# EAGLE library part BQ51050BRHLR (library (custom)-new-components)
Qi (WPC) Compliant Highly Integrated Secondary-Side Direct Lithium Ion Charger. 20-VQFN
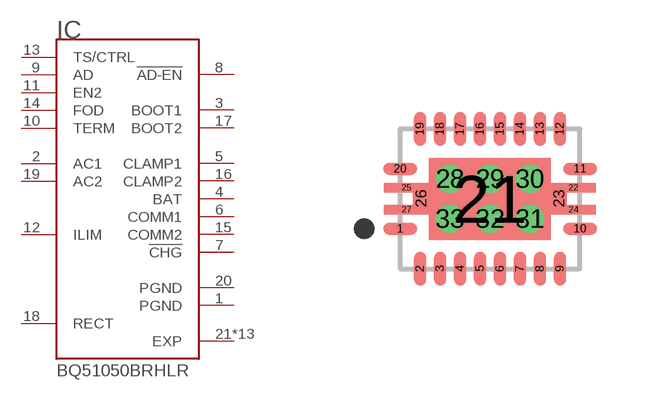
[diagram p11: symbol with the pads of QFN50P450X350X100-21N; footprint QFN50P450X350X100-21N]

Designator prefix IC

## BQ51050BRHLR (AVAILABILITY: Good; DESCRIPTION: IC WIRELESS PWR RCVR 20QFN; MF: Texas Instruments; MP: BQ51050BRHLR; PACKAGE: VQFN-20 Texas Instruments; PRICE: 2.63 USD)  [QFN50P450X350X100-21N]
1  PGND  pwr
2  AC1  in
3  BOOT1  out
4  BAT  out
5  CLAMP1  out
6  COMM1  out
7  !CHG  out
8  !AD-EN  out
9  AD  in
10  TERM  in
11  EN2  in
12  ILIM
13  TS/CTRL  in
14  FOD  in
15  COMM2  out
16  CLAMP2  out
17  BOOT2  out
18  RECT  pas
19  AC2  in
20  PGND  pwr
21  EXP  pwr
22  EXP  pwr
23  EXP  pwr
24  EXP  pwr
25  EXP  pwr
26  EXP  pwr
27  EXP  pwr
28  EXP  pwr
29  EXP  pwr
30  EXP  pwr
31  EXP  pwr
32  EXP  pwr
33  EXP  pwr

## Footprint QFN50P450X350X100-21N (pad centres in mm)
smd 0.85 x 0.3: 1 -2.25,-0.75; 10 2.25,-0.75; 11 2.25,0.75; 20 -2.25,0.75
smd 0.3 x 0.85: 2 -1.75,-1.75; 3 -1.25,-1.75; 4 -0.75,-1.75; 5 -0.25,-1.75; 6 0.25,-1.75; 7 0.75,-1.75; 8 1.25,-1.75; 9 1.75,-1.75; 12 1.75,1.75; 13 1.25,1.75; 14 0.75,1.75; 15 0.25,1.75; 16 -0.25,1.75; 17 -0.75,1.75; 18 -1.25,1.75; 19 -1.75,1.75
smd 3.05 x 2.05: 21 0,0
smd 1.125 x 0.23: 22 2.087,0.275; 24 2.087,-0.275; 25 -2.087,0.275; 27 -2.087,-0.275
smd 0.4 x 0.7: 23 1.725,0.006; 26 -1.725,0.006
drill 0.2 pad 0.3: 28 -1,0.5; 29 0,0.5; 30 1,0.5; 31 1,-0.5; 32 0,-0.5; 33 -1,-0.5